# EAGLE library part 4VFX12FF668 (library xilinx_spartan3_virtex4_and_5)
Xilinx FPGA
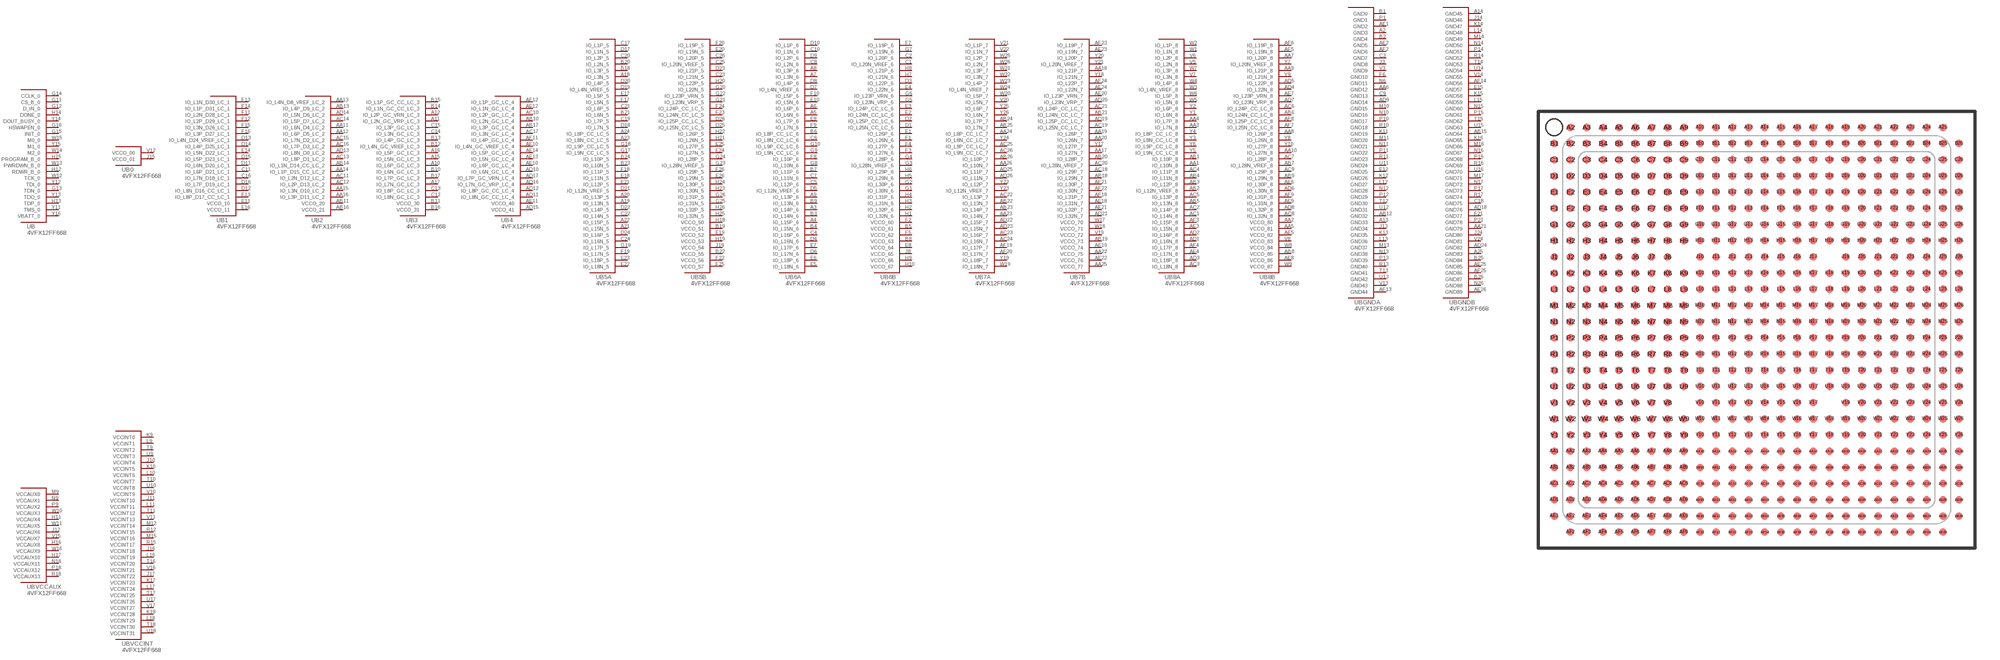
[diagram p62: symbol with the pads of FF668; footprint FF668]

Designator prefix U; gates B=4VFX12FF668_ B0=4VFX12FF668_0 B1=4VFX12FF668_1 B2=4VFX12FF668_2 B3=4VFX12FF668_3 B4=4VFX12FF668_4 B5A=4VFX12FF668_5A B5B=4VFX12FF668_5B B6A=4VFX12FF668_6A B6B=4VFX12FF668_6B B7A=4VFX12FF668_7A B7B=4VFX12FF668_7B B8A=4VFX12FF668_8A B8B=4VFX12FF668_8B BGNDA=4VFX12FF668_GNDA BGNDB=4VFX12FF668_GNDB BVCCAUX=4VFX12FF668_VCCAUX BVCCINT=4VFX12FF668_VCCINT

## 4VFX12FF668  [FF668]
A2  BGNDA:GND3  pas
A3  B6A:IO_L14P_6
A4  B6A:IO_L15P_6
A5  B6A:IO_L6N_6
A6  B6A:IO_L6P_6
A7  B6A:IO_L3N_6
A8  B6A:IO_L3P_6
A9  B6A:IO_L13P_6
A10  B3:IO_L6P_GC_LC_3
A11  B3:IO_L2N_GC_VRP_LC_3
A12  B3:IO_L2P_GC_VRN_LC_3
A13  BGNDA:GND33  pas
A14  BGNDB:GND45  pas
A15  B3:IO_L5N_GC_LC_3
A16  B3:IO_L5P_GC_LC_3
A17  B3:IO_L7N_GC_LC_3
A18  B5A:IO_L3N_5
A19  B5A:IO_L13N_5
A20  B5A:IO_L13P_5
A21  B5A:IO_L15N_5
A22  B5A:IO_L15P_5
A23  B5A:IO_L8N_CC_LC_5
A24  B5A:IO_L8P_CC_LC_5
A25  BGNDB:GND83  pas
AA1  B8A:IO_L10N_8
AA2  B8B:VCCO_80  pas
AA3  B8A:IO_L7N_8
AA4  B8A:IO_L7P_8
AA5  B8B:VCCO_81  pas
AA6  BGNDA:GND12  pas
AA7  B8B:IO_L20P_8
AA8  B8B:IO_L26P_8
AA9  B8B:IO_L21P_8
AA10  B8B:IO_L27N_8
AA11  B2:IO_L6N_D4_LC_2
AA12  B2:IO_L6P_D5_LC_2
AA13  B2:IO_L4N_D8_VREF_LC_2
AA14  B2:IO_L1P_D15_CC_LC_2
AA15  B2:IO_L3N_D10_LC_2
AA16  B2:IO_L3P_D11_LC_2
AA17  B7B:IO_L27N_7
AA18  B7B:IO_L21P_7
AA19  B7B:IO_L26P_7
AA20  B7B:IO_L26N_7
AA21  BGNDB:GND79  pas
AA22  B7B:VCCO_75  pas
AA23  B7A:IO_L14N_7
AA24  B7A:IO_L8P_CC_LC_7
AA25  B7B:VCCO_77  pas
AA26  B7A:IO_L10N_7
AB1  B8A:IO_L10P_8
AB2  B8A:IO_L12N_VREF_8
AB3  B8A:IO_L12P_8
AB4  B8A:IO_L11N_8
AB5  B8A:IO_L13N_8
AB6  B8B:IO_L24N_CC_LC_8
AB7  B8B:IO_L28N_VREF_8
AB8  B8B:VCCO_85  pas
AB9  B8B:IO_L29N_8
AB10  B4:IO_L2N_GC_LC_4
AB11  B2:VCCO_20  pas
AB12  BGNDA:GND32  pas
AB13  B2:IO_L4P_D9_LC_2
AB14  B2:IO_L1N_D14_CC_LC_2
AB15  BGNDB:GND64  pas
AB16  B2:VCCO_21  pas
AB17  B4:IO_L3P_GC_LC_4
AB18  B7B:IO_L29N_7
AB19  B7B:VCCO_73  pas
AB20  B7B:IO_L28P_7
AB21  B7B:IO_L24N_CC_LC_7
AB22  B7A:IO_L13N_7
AB23  B7A:IO_L14P_7
AB24  B7A:IO_L7P_7
AB25  B7A:IO_L7N_7
AB26  B7A:IO_L10P_7
AC1  B8A:IO_L14N_8
AC2  B8A:IO_L14P_8
AC3  B8A:IO_L18N_8
AC4  B8A:IO_L11P_8
AC5  B8A:IO_L13P_8
AC6  B8B:IO_L24P_CC_LC_8
AC7  B8B:IO_L28P_8
AC8  B8B:IO_L32N_8
AC9  B8B:IO_L29P_8
AC10  B4:IO_L2P_GC_LC_4
AC11  B2:IO_L2N_D12_LC_2
AC12  B2:IO_L2P_D13_LC_2
AC13  B2:IO_L8P_D1_LC_2
AC14  B2:IO_L5P_D7_LC_2
AC15  B2:IO_L7N_D2_LC_2
AC16  B2:IO_L7P_D3_LC_2
AC17  B4:IO_L3N_GC_LC_4
AC18  B7B:IO_L29P_7
AC19  B7B:IO_L25N_CC_LC_7
AC20  B7B:IO_L28N_VREF_7
AC21  B7B:IO_L24P_CC_LC_7
AC22  B7A:IO_L13P_7
AC23  B7A:IO_L16P_7
AC24  B7A:IO_L16N_7
AC25  B7A:IO_L9P_CC_LC_7
AC26  B7A:IO_L9N_CC_LC_7
AD1  B8A:IO_L16N_8
AD2  B8A:IO_L16P_8
AD3  B8A:IO_L18P_8
AD4  B8B:IO_L22N_8
AD5  B8B:IO_L22P_8
AD6  B8B:IO_L30N_8
AD7  B8B:IO_L23N_VRP_8
AD8  B8B:IO_L32P_8
AD9  BGNDA:GND14  pas
AD10  B4:IO_L6N_GC_LC_4
AD11  B4:IO_L8N_GC_CC_LC_4
AD12  B4:IO_L8P_GC_CC_LC_4
AD13  B2:IO_L8N_D0_LC_2
AD14  B2:IO_L5N_D6_LC_2
AD15  B4:VCCO_41  pas
AD16  B4:IO_L7N_GC_VRP_LC_4
AD17  B4:IO_L7P_GC_VRN_LC_4
AD18  BGNDB:GND76  pas
AD19  B7B:IO_L25P_CC_LC_7
AD20  B7B:IO_L23N_VRP_7
AD21  B7B:IO_L32N_7
AD22  B7A:IO_L15P_7
AD23  B7A:IO_L15N_7
AD24  BGNDB:GND82  pas
AD25  B7A:IO_L11P_7
AD26  B7A:IO_L11N_7
AE1  BGNDA:GND2  pas
AE2  BGNDA:GND5  pas
AE3  B8A:IO_L15N_8
AE4  B8A:IO_L17N_8
AE5  B8B:VCCO_82  pas
AE6  B8B:IO_L30P_8
AE7  B8B:IO_L23P_VRN_8
AE8  B8B:VCCO_86  pas
AE9  B8B:IO_L31N_8
AE10  B4:IO_L6P_GC_LC_4
AE11  B4:VCCO_40  pas
AE12  B4:IO_L1N_GC_LC_4
AE13  B4:IO_L5N_GC_LC_4
AE14  B4:IO_L5P_GC_LC_4
AE18  B7B:IO_L31N_7
AE19  B7B:VCCO_74  pas
AE20  B7B:IO_L23P_VRN_7
AE21  B7B:IO_L32P_7
AE22  B7B:VCCO_76  pas
AE23  B7B:IO_L19N_7
AE24  B7B:IO_L22N_7
AE25  BGNDB:GND85  pas
AE26  BGNDB:GND89  pas
AF2  BGNDA:GND6  pas
AF3  B8A:IO_L15P_8
AF4  B8A:IO_L17P_8
AF5  B8B:IO_L19N_8
AF6  B8B:IO_L19P_8
AF7  B8B:IO_L25N_CC_LC_8
AF8  B8B:IO_L25P_CC_LC_8
AF9  B8B:IO_L31P_8
AF10  B4:IO_L4N_GC_VREF_LC_4
AF11  B4:IO_L4P_GC_LC_4
AF12  B4:IO_L1P_GC_LC_4
AF13  BGNDA:GND44  pas
AF14  BGNDB:GND56  pas
AF18  B7B:IO_L31P_7
AF19  B7A:IO_L17P_7
AF20  B7A:IO_L17N_7
AF21  B7B:IO_L30P_7
AF22  B7B:IO_L30N_7
AF23  B7B:IO_L19P_7
AF24  B7B:IO_L22P_7
AF25  BGNDB:GND86  pas
B1  BGNDA:GND0  pas
B2  BGNDA:GND4  pas
B3  B6A:IO_L14N_6
B4  B6A:IO_L15N_6
B5  B6B:VCCO_61  pas
B6  B6A:IO_L8P_CC_LC_6
B7  B6A:IO_L11P_6
B8  B6B:VCCO_63  pas
B9  B6A:IO_L13N_6
B10  B3:IO_L6N_GC_LC_3
B11  B3:VCCO_30  pas
B12  B3:IO_L4N_GC_VREF_LC_3
B13  B3:IO_L4P_GC_LC_3
B14  B3:IO_L1N_GC_CC_LC_3
B15  B3:IO_L1P_GC_CC_LC_3
B16  B3:VCCO_31  pas
B17  B3:IO_L7P_GC_LC_3
B18  B5A:IO_L3P_5
B19  B5B:VCCO_51  pas
B20  B5A:IO_L2N_5
B21  B5A:IO_L6N_5
B22  B5B:VCCO_55  pas
B23  B5A:IO_L10N_5
B24  B5A:IO_L10P_5
B25  BGNDB:GND84  pas
B26  BGNDB:GND87  pas
C1  B6B:IO_L20N_VREF_6
C2  B6B:IO_L20P_6
C3  BGNDA:GND7  pas
C4  B6A:IO_L16P_6
C5  B6A:IO_L12P_6
C6  B6A:IO_L8N_CC_LC_6
C7  B6A:IO_L11N_6
C8  B6A:IO_L2N_6
C9  BGNDA:GND13  pas
C10  B6A:IO_L1N_6
C11  B1:IO_L6P_D21_LC_1
C12  B3:IO_L8N_GC_LC_3
C13  B3:IO_L8P_GC_LC_3
C14  B3:IO_L3N_GC_LC_3
C15  B3:IO_L3P_GC_LC_3
C16  B1:IO_L7N_D18_LC_1
C17  B5A:IO_L1P_5
C18  BGNDB:GND75  pas
C19  B5A:IO_L7P_5
C20  B5A:IO_L2P_5
C21  B5A:IO_L6P_5
C22  B5A:IO_L14N_5
C23  B5B:IO_L21N_5
C24  B5A:IO_L16N_5
C25  B5B:IO_L20N_VREF_5
C26  B5B:IO_L20P_5
D1  B6B:IO_L25N_CC_LC_6
D2  B6B:IO_L25P_CC_LC_6
D3  B6B:IO_L22P_6
D4  B6A:IO_L16N_6
D5  B6A:IO_L12N_VREF_6
D6  B6A:IO_L17N_6
D7  B6A:IO_L4N_VREF_6
D8  B6A:IO_L4P_6
D9  B6A:IO_L2P_6
D10  B6A:IO_L1P_6
D11  B1:IO_L6N_D20_LC_1
D12  B1:IO_L8N_D16_CC_LC_1
D13  B1:IO_L4N_D24_VREF_LC_1
D14  B1:IO_L4P_D25_LC_1
D15  B1:IO_L5P_D23_LC_1
D16  B1:IO_L7P_D19_LC_1
D17  B5A:IO_L1N_5
D18  B5A:IO_L7N_5
D19  B5A:IO_L4N_VREF_5
D20  B5A:IO_L4P_5
D21  B5A:IO_L12N_VREF_5
D22  B5A:IO_L14P_5
D23  B5B:IO_L21P_5
D24  B5A:IO_L16P_5
D25  B5B:IO_L25N_CC_LC_5
D26  B5B:IO_L25P_CC_LC_5
E1  B6B:IO_L26P_6
E2  B6B:IO_L24N_CC_LC_6
E3  B6B:IO_L24P_CC_LC_6
E4  B6B:IO_L22N_6
E5  B6A:IO_L18N_6
E6  B6A:IO_L18P_6
E7  B6A:IO_L17P_6
E8  B6B:VCCO_64  pas
E9  B6A:IO_L7P_6
E10  B6A:IO_L5N_6
E11  B1:VCCO_10  pas
E12  BGNDA:GND25  pas
E13  B1:IO_L8P_D17_CC_LC_1
E14  B1:IO_L5N_D22_LC_1
E15  BGNDB:GND57  pas
E16  B1:VCCO_11  pas
E17  B5A:IO_L5P_5
E18  B5A:IO_L11N_5
E19  B5B:VCCO_52  pas
E20  B5B:IO_L19N_5
E21  B5A:IO_L12P_5
E22  B5A:IO_L18N_5
E23  B5A:IO_L18P_5
E24  B5B:IO_L27N_5
E25  B5B:IO_L27P_5
E26  B5B:IO_L29N_5
F1  B6B:IO_L26N_6
F2  B6B:VCCO_60  pas
F3  B6B:IO_L27N_6
F4  B6B:IO_L27P_6
F5  B6B:VCCO_62  pas
F6  BGNDA:GND10  pas
F7  B6B:IO_L19P_6
F8  B6A:IO_L10P_6
F9  B6A:IO_L7N_6
F10  B6A:IO_L5P_6
F11  B1:IO_L2N_D28_LC_1
F12  B1:IO_L2P_D29_LC_1
F13  B1:IO_L1N_D30_LC_1
F14  B1:IO_L1P_D31_LC_1
F15  B1:IO_L3N_D26_LC_1
F16  B1:IO_L3P_D27_LC_1
F17  B5A:IO_L5N_5
F18  B5A:IO_L11P_5
F19  B5A:IO_L17N_5
F20  B5B:IO_L19P_5
F21  BGNDB:GND77  pas
F22  B5B:VCCO_56  pas
F23  B5B:IO_L24N_CC_LC_5
F24  B5B:IO_L24P_CC_LC_5
F25  B5B:VCCO_57  pas
F26  B5B:IO_L29P_5
G1  B6B:IO_L30N_6
G2  B6B:IO_L30P_6
G3  B6B:IO_L28N_VREF_6
G4  B6B:IO_L28P_6
G5  B6B:IO_L23N_VRP_6
G6  B6B:IO_L23P_VRN_6
G7  B6B:IO_L19N_6
G8  B6A:IO_L10N_6
G9  B6A:IO_L9N_CC_LC_6
G10  B6A:IO_L9P_CC_LC_6
G11  B:CS_B_0
G12  B:D_IN_0
G13  B:TDN_0
G14  B:CCLK_0
G15  B:INIT_0
G16  B:HSWAPEN_0
G17  B5A:IO_L9N_CC_LC_5
G18  B5A:IO_L9P_CC_LC_5
G19  B5A:IO_L17P_5
G20  B5B:IO_L22N_5
G21  B5B:IO_L23N_VRP_5
G22  B5B:IO_L23P_VRN_5
G23  B5B:IO_L28N_VREF_5
G24  B5B:IO_L28P_5
G25  B5B:IO_L31N_5
G26  B5B:IO_L31P_5
H1  B6B:IO_L32N_6
H2  B6B:IO_L32P_6
H3  B6B:IO_L31N_6
H4  B6B:IO_L31P_6
H5  B6B:IO_L29N_6
H6  B6B:IO_L29P_6
H7  B6B:IO_L21N_6
H8  B6B:IO_L21P_6
H9  B6B:VCCO_66  pas
H10  B6B:VCCO_67  pas
H11  BVCCAUX:VCCAUX4  pas
H12  B:RDWR_B_0
H13  B:TDP_0
H14  B:DONE_0
H15  B:PROGRAM_B_0
H16  BVCCAUX:VCCAUX8  pas
H17  BVCCAUX:VCCAUX10  pas
H18  B5B:VCCO_50  pas
H19  B5B:VCCO_53  pas
H20  B5B:IO_L22P_5
H21  B5B:IO_L26N_5
H22  B5B:IO_L26P_5
H23  B5B:IO_L30N_5
H24  B5B:IO_L30P_5
H25  B5B:IO_L32N_5
H26  B5B:IO_L32P_5
J3  BGNDA:GND8  pas
J8  B6B:VCCO_65  pas
J10  BVCCINT:VCCINT4  pas
J11  BVCCINT:VCCINT10  pas
J12  BVCCAUX:VCCAUX6  pas
J13  BGNDA:GND34  pas
J14  BGNDB:GND46  pas
J15  B0:VCCO_01  pas
J16  BVCCINT:VCCINT18  pas
J17  BVCCINT:VCCINT22  pas
J19  B5B:VCCO_54  pas
J24  BGNDB:GND80  pas
K9  BVCCINT:VCCINT0  pas
K10  BVCCINT:VCCINT5  pas
K11  BGNDA:GND19  pas
K12  BGNDA:GND26  pas
K13  BGNDA:GND35  pas
K14  BGNDB:GND47  pas
K15  BGNDB:GND58  pas
K16  BGNDB:GND65  pas
K17  BVCCINT:VCCINT23  pas
K18  BVCCINT:VCCINT28  pas
L9  BVCCINT:VCCINT1  pas
L10  BVCCINT:VCCINT6  pas
L11  BVCCINT:VCCINT11  pas
L12  BGNDA:GND27  pas
L13  BGNDA:GND36  pas
L14  BGNDB:GND48  pas
L15  BGNDB:GND59  pas
L16  BVCCINT:VCCINT19  pas
L17  BVCCINT:VCCINT24  pas
L18  BVCCINT:VCCINT29  pas
M9  BVCCAUX:VCCAUX0  pas
M10  BGNDA:GND15  pas
M11  BGNDA:GND20  pas
M12  BVCCINT:VCCINT14  pas
M13  BGNDA:GND37  pas
M14  BGNDB:GND49  pas
M15  BVCCINT:VCCINT16  pas
M16  BGNDB:GND66  pas
M17  BGNDB:GND71  pas
N6  BGNDA:GND11  pas
N9  BVCCAUX:VCCAUX1  pas
N10  BGNDA:GND16  pas
N11  BGNDA:GND21  pas
N12  BGNDA:GND28  pas
N13  BGNDA:GND38  pas
N14  BGNDB:GND50  pas
N15  BGNDB:GND60  pas
N16  BGNDB:GND67  pas
N17  BGNDB:GND72  pas
N18  BVCCAUX:VCCAUX11  pas
N26  BGNDB:GND88  pas
P1  BGNDA:GND1  pas
P9  BVCCAUX:VCCAUX2  pas
P10  BGNDA:GND17  pas
P11  BGNDA:GND22  pas
P12  BGNDA:GND29  pas
P13  BGNDA:GND39  pas
P14  BGNDB:GND51  pas
P15  BGNDB:GND61  pas
P16  BGNDB:GND68  pas
P17  BGNDB:GND73  pas
P18  BVCCAUX:VCCAUX12  pas
P21  BGNDB:GND78  pas
R10  BGNDA:GND18  pas
R11  BGNDA:GND23  pas
R12  BVCCINT:VCCINT15  pas
R13  BGNDA:GND40  pas
R14  BGNDB:GND52  pas
R15  BVCCINT:VCCINT17  pas
R16  BGNDB:GND69  pas
R17  BGNDB:GND74  pas
R18  BVCCAUX:VCCAUX13  pas
T9  BVCCINT:VCCINT2  pas
T10  BVCCINT:VCCINT7  pas
T11  BVCCINT:VCCINT12  pas
T12  BGNDA:GND30  pas
T13  BGNDA:GND41  pas
T14  BGNDB:GND53  pas
T15  BGNDB:GND62  pas
T16  BVCCINT:VCCINT20  pas
T17  BVCCINT:VCCINT25  pas
T18  BVCCINT:VCCINT30  pas
U9  BVCCINT:VCCINT3  pas
U10  BVCCINT:VCCINT8  pas
U11  BGNDA:GND24  pas
U12  BGNDA:GND31  pas
U13  BGNDA:GND42  pas
U14  BGNDB:GND54  pas
U15  BGNDB:GND63  pas
U16  BGNDB:GND70  pas
U17  BVCCINT:VCCINT26  pas
U18  BVCCINT:VCCINT31  pas
V3  BGNDA:GND9  pas
V5  B8A:IO_L2N_8
V6  B8A:IO_L2P_8
V7  B8A:IO_L3N_8
V8  B8B:VCCO_83  pas
V10  BVCCINT:VCCINT9  pas
V11  BVCCINT:VCCINT13  pas
V12  B0:VCCO_00  pas
V13  BGNDA:GND43  pas
V14  BGNDB:GND55  pas
V15  BVCCAUX:VCCAUX7  pas
V16  BVCCINT:VCCINT21  pas
V17  BVCCINT:VCCINT27  pas
V19  B7B:VCCO_72  pas
V20  B7A:IO_L5N_7
V21  B7A:IO_L1P_7
V22  B7A:IO_L1N_7
V24  BGNDB:GND81  pas
W1  B8A:IO_L1N_8
W2  B8A:IO_L1P_8
W3  B8A:IO_L4N_VREF_8
W4  B8A:IO_L4P_8
W5  B8A:IO_L5N_8
W6  B8A:IO_L5P_8
W7  B8A:IO_L3P_8
W8  B8B:VCCO_84  pas
W9  B8B:VCCO_87  pas
W10  BVCCAUX:VCCAUX3  pas
W11  BVCCAUX:VCCAUX5  pas
W12  B:TCK_0
W13  B:PWRDWN_B_0
W14  B:M2_0
W15  B:M0_0
W16  BVCCAUX:VCCAUX9  pas
W17  B7B:VCCO_70  pas
W18  B7B:VCCO_71  pas
W19  B7A:IO_L18N_7
W20  B7A:IO_L5P_7
W21  B7A:IO_L3P_7
W22  B7A:IO_L3N_7
W23  B7A:IO_L4P_7
W24  B7A:IO_L4N_VREF_7
W25  B7A:IO_L2P_7
W26  B7A:IO_L2N_7
Y1  B8A:IO_L6N_8
Y2  B8A:IO_L6P_8
Y3  B8A:IO_L8N_CC_LC_8
Y4  B8A:IO_L8P_CC_LC_8
Y5  B8A:IO_L9N_CC_LC_8
Y6  B8A:IO_L9P_CC_LC_8
Y7  B8B:IO_L20N_VREF_8
Y8  B8B:IO_L26N_8
Y9  B8B:IO_L21N_8
Y10  B8B:IO_L27P_8
Y11  B:TMS_0
Y12  B:TDI_0
Y13  B:TDO_0
Y14  B:DOUT_BUSY_0
Y15  B:M1_0
Y16  B:VBATT_0
Y17  B7B:IO_L27P_7
Y18  B7B:IO_L21N_7
Y19  B7A:IO_L18P_7
Y20  B7B:IO_L20P_7
Y21  B7B:IO_L20N_VREF_7
Y22  B7A:IO_L12P_7
Y23  B7A:IO_L12N_VREF_7
Y24  B7A:IO_L8N_CC_LC_7
Y25  B7A:IO_L6P_7
Y26  B7A:IO_L6N_7

## Footprint FF668 (pad centres in mm)
smd 0.45 x 0.45: A2 -11.5,12.5; A3 -10.5,12.5; A4 -9.5,12.5; A5 -8.5,12.5; A6 -7.5,12.5; A7 -6.5,12.5; A8 -5.5,12.5; A9 -4.5,12.5; A10 -3.5,12.5; A11 -2.5,12.5; A12 -1.5,12.5; A13 -0.5,12.5; A14 0.5,12.5; A15 1.5,12.5; A16 2.5,12.5; A17 3.5,12.5; A18 4.5,12.5; A19 5.5,12.5; A20 6.5,12.5; A21 7.5,12.5; A22 8.5,12.5; A23 9.5,12.5; A24 10.5,12.5; A25 11.5,12.5; AA1 -12.5,-7.5; AA2 -11.5,-7.5; AA3 -10.5,-7.5; AA4 -9.5,-7.5; AA5 -8.5,-7.5; AA6 -7.5,-7.5; AA7 -6.5,-7.5; AA8 -5.5,-7.5; AA9 -4.5,-7.5; AA10 -3.5,-7.5; AA11 -2.5,-7.5; AA12 -1.5,-7.5; AA13 -0.5,-7.5; AA14 0.5,-7.5; AA15 1.5,-7.5; AA16 2.5,-7.5; AA17 3.5,-7.5; AA18 4.5,-7.5; AA19 5.5,-7.5; AA20 6.5,-7.5; AA21 7.5,-7.5; AA22 8.5,-7.5; AA23 9.5,-7.5; AA24 10.5,-7.5; AA25 11.5,-7.5; AA26 12.5,-7.5; AB1 -12.5,-8.5; AB2 -11.5,-8.5; AB3 -10.5,-8.5; AB4 -9.5,-8.5; AB5 -8.5,-8.5; AB6 -7.5,-8.5; AB7 -6.5,-8.5; AB8 -5.5,-8.5; AB9 -4.5,-8.5; AB10 -3.5,-8.5; AB11 -2.5,-8.5; AB12 -1.5,-8.5; AB13 -0.5,-8.5; AB14 0.5,-8.5; AB15 1.5,-8.5; AB16 2.5,-8.5; AB17 3.5,-8.5; AB18 4.5,-8.5; AB19 5.5,-8.5; AB20 6.5,-8.5; AB21 7.5,-8.5; AB22 8.5,-8.5; AB23 9.5,-8.5; AB24 10.5,-8.5; AB25 11.5,-8.5; AB26 12.5,-8.5; AC1 -12.5,-9.5; AC2 -11.5,-9.5; AC3 -10.5,-9.5; AC4 -9.5,-9.5; AC5 -8.5,-9.5; AC6 -7.5,-9.5; AC7 -6.5,-9.5; AC8 -5.5,-9.5; AC9 -4.5,-9.5; AC10 -3.5,-9.5; AC11 -2.5,-9.5; AC12 -1.5,-9.5; AC13 -0.5,-9.5; AC14 0.5,-9.5; AC15 1.5,-9.5; AC16 2.5,-9.5; AC17 3.5,-9.5; AC18 4.5,-9.5; AC19 5.5,-9.5; AC20 6.5,-9.5; AC21 7.5,-9.5; AC22 8.5,-9.5; AC23 9.5,-9.5; AC24 10.5,-9.5; AC25 11.5,-9.5; AC26 12.5,-9.5; AD1 -12.5,-10.5; AD2 -11.5,-10.5; AD3 -10.5,-10.5; AD4 -9.5,-10.5; AD5 -8.5,-10.5; AD6 -7.5,-10.5; AD7 -6.5,-10.5; AD8 -5.5,-10.5; AD9 -4.5,-10.5; AD10 -3.5,-10.5; AD11 -2.5,-10.5; AD12 -1.5,-10.5; AD13 -0.5,-10.5; AD14 0.5,-10.5; AD15 1.5,-10.5; AD16 2.5,-10.5; AD17 3.5,-10.5; AD18 4.5,-10.5; AD19 5.5,-10.5; AD20 6.5,-10.5; AD21 7.5,-10.5; AD22 8.5,-10.5; AD23 9.5,-10.5; AD24 10.5,-10.5; AD25 11.5,-10.5; AD26 12.5,-10.5; AE1 -12.5,-11.5; AE2 -11.5,-11.5; AE3 -10.5,-11.5; AE4 -9.5,-11.5; AE5 -8.5,-11.5; AE6 -7.5,-11.5; AE7 -6.5,-11.5; AE8 -5.5,-11.5; AE9 -4.5,-11.5; AE10 -3.5,-11.5; AE11 -2.5,-11.5; AE12 -1.5,-11.5; AE13 -0.5,-11.5; AE14 0.5,-11.5; AE15 1.5,-11.5; AE16 2.5,-11.5; AE17 3.5,-11.5; AE18 4.5,-11.5; AE19 5.5,-11.5; AE20 6.5,-11.5; AE21 7.5,-11.5; AE22 8.5,-11.5; AE23 9.5,-11.5; AE24 10.5,-11.5; AE25 11.5,-11.5; AE26 12.5,-11.5; AF2 -11.5,-12.5; AF3 -10.5,-12.5; AF4 -9.5,-12.5; AF5 -8.5,-12.5; AF6 -7.5,-12.5; AF7 -6.5,-12.5; AF8 -5.5,-12.5; AF9 -4.5,-12.5; AF10 -3.5,-12.5; AF11 -2.5,-12.5; AF12 -1.5,-12.5; AF13 -0.5,-12.5; AF14 0.5,-12.5; AF15 1.5,-12.5; AF16 2.5,-12.5; AF17 3.5,-12.5; AF18 4.5,-12.5; AF19 5.5,-12.5; AF20 6.5,-12.5; AF21 7.5,-12.5; AF22 8.5,-12.5; AF23 9.5,-12.5; AF24 10.5,-12.5; AF25 11.5,-12.5; B1 -12.5,11.5; B2 -11.5,11.5; B3 -10.5,11.5; B4 -9.5,11.5; B5 -8.5,11.5; B6 -7.5,11.5; B7 -6.5,11.5; B8 -5.5,11.5; B9 -4.5,11.5; B10 -3.5,11.5; B11 -2.5,11.5; B12 -1.5,11.5; B13 -0.5,11.5; B14 0.5,11.5; B15 1.5,11.5; B16 2.5,11.5; B17 3.5,11.5; B18 4.5,11.5; B19 5.5,11.5; B20 6.5,11.5; B21 7.5,11.5; B22 8.5,11.5; B23 9.5,11.5; B24 10.5,11.5; B25 11.5,11.5; B26 12.5,11.5; C1 -12.5,10.5; C2 -11.5,10.5; C3 -10.5,10.5; C4 -9.5,10.5; C5 -8.5,10.5; C6 -7.5,10.5; C7 -6.5,10.5; C8 -5.5,10.5; C9 -4.5,10.5; C10 -3.5,10.5; C11 -2.5,10.5; C12 -1.5,10.5; C13 -0.5,10.5; C14 0.5,10.5; C15 1.5,10.5; C16 2.5,10.5; C17 3.5,10.5; C18 4.5,10.5; C19 5.5,10.5; C20 6.5,10.5; C21 7.5,10.5; C22 8.5,10.5; C23 9.5,10.5; C24 10.5,10.5; C25 11.5,10.5; C26 12.5,10.5; D1 -12.5,9.5; D2 -11.5,9.5; D3 -10.5,9.5; D4 -9.5,9.5; D5 -8.5,9.5; D6 -7.5,9.5; D7 -6.5,9.5; D8 -5.5,9.5; D9 -4.5,9.5; D10 -3.5,9.5; D11 -2.5,9.5; D12 -1.5,9.5; D13 -0.5,9.5; D14 0.5,9.5; D15 1.5,9.5; D16 2.5,9.5; D17 3.5,9.5; D18 4.5,9.5; D19 5.5,9.5; D20 6.5,9.5; D21 7.5,9.5; D22 8.5,9.5; D23 9.5,9.5; D24 10.5,9.5; D25 11.5,9.5; D26 12.5,9.5; E1 -12.5,8.5; E2 -11.5,8.5; E3 -10.5,8.5; E4 -9.5,8.5; E5 -8.5,8.5; E6 -7.5,8.5; E7 -6.5,8.5; E8 -5.5,8.5; E9 -4.5,8.5; E10 -3.5,8.5; E11 -2.5,8.5; E12 -1.5,8.5; E13 -0.5,8.5; E14 0.5,8.5; E15 1.5,8.5; E16 2.5,8.5; E17 3.5,8.5; E18 4.5,8.5; E19 5.5,8.5; E20 6.5,8.5; E21 7.5,8.5; E22 8.5,8.5; E23 9.5,8.5; E24 10.5,8.5; E25 11.5,8.5; E26 12.5,8.5; F1 -12.5,7.5; F2 -11.5,7.5; F3 -10.5,7.5; F4 -9.5,7.5; F5 -8.5,7.5; F6 -7.5,7.5; F7 -6.5,7.5; F8 -5.5,7.5; F9 -4.5,7.5; F10 -3.5,7.5; F11 -2.5,7.5; F12 -1.5,7.5; F13 -0.5,7.5; F14 0.5,7.5; F15 1.5,7.5; F16 2.5,7.5; F17 3.5,7.5; F18 4.5,7.5; F19 5.5,7.5; F20 6.5,7.5; F21 7.5,7.5; F22 8.5,7.5; F23 9.5,7.5; F24 10.5,7.5; F25 11.5,7.5; F26 12.5,7.5; G1 -12.5,6.5; G2 -11.5,6.5; G3 -10.5,6.5; G4 -9.5,6.5; G5 -8.5,6.5; G6 -7.5,6.5; G7 -6.5,6.5; G8 -5.5,6.5; G9 -4.5,6.5; G10 -3.5,6.5; G11 -2.5,6.5; G12 -1.5,6.5; G13 -0.5,6.5; G14 0.5,6.5; G15 1.5,6.5; G16 2.5,6.5; G17 3.5,6.5; G18 4.5,6.5; G19 5.5,6.5; G20 6.5,6.5; G21 7.5,6.5; G22 8.5,6.5; G23 9.5,6.5; G24 10.5,6.5; G25 11.5,6.5; G26 12.5,6.5; H1 -12.5,5.5; H2 -11.5,5.5; H3 -10.5,5.5; H4 -9.5,5.5; H5 -8.5,5.5; H6 -7.5,5.5; H7 -6.5,5.5; H8 -5.5,5.5; H9 -4.5,5.5; H10 -3.5,5.5; H11 -2.5,5.5; H12 -1.5,5.5; H13 -0.5,5.5; H14 0.5,5.5; H15 1.5,5.5; H16 2.5,5.5; H17 3.5,5.5; H18 4.5,5.5; H19 5.5,5.5; H20 6.5,5.5; H21 7.5,5.5; H22 8.5,5.5; H23 9.5,5.5; H24 10.5,5.5; H25 11.5,5.5; H26 12.5,5.5; J1 -12.5,4.5; J2 -11.5,4.5; J3 -10.5,4.5; J4 -9.5,4.5; J5 -8.5,4.5; J6 -7.5,4.5; J7 -6.5,4.5; J8 -5.5,4.5; J10 -3.5,4.5; J11 -2.5,4.5; J12 -1.5,4.5; J13 -0.5,4.5; J14 0.5,4.5; J15 1.5,4.5; J16 2.5,4.5; J17 3.5,4.5; J19 5.5,4.5; J20 6.5,4.5; J21 7.5,4.5; J22 8.5,4.5; J23 9.5,4.5; J24 10.5,4.5; J25 11.5,4.5; J26 12.5,4.5; K1 -12.5,3.5; K2 -11.5,3.5; K3 -10.5,3.5; K4 -9.5,3.5; K5 -8.5,3.5; K6 -7.5,3.5; K7 -6.5,3.5; K8 -5.5,3.5; K9 -4.5,3.5; K10 -3.5,3.5; K11 -2.5,3.5; K12 -1.5,3.5; K13 -0.5,3.5; K14 0.5,3.5; K15 1.5,3.5; K16 2.5,3.5; K17 3.5,3.5; K18 4.5,3.5; K19 5.5,3.5; K20 6.5,3.5; K21 7.5,3.5; K22 8.5,3.5; K23 9.5,3.5; K24 10.5,3.5; K25 11.5,3.5; K26 12.5,3.5; L1 -12.5,2.5; L2 -11.5,2.5; L3 -10.5,2.5; L4 -9.5,2.5; L5 -8.5,2.5; L6 -7.5,2.5; L7 -6.5,2.5; L8 -5.5,2.5; L9 -4.5,2.5; L10 -3.5,2.5; L11 -2.5,2.5; L12 -1.5,2.5; L13 -0.5,2.5; L14 0.5,2.5; L15 1.5,2.5; L16 2.5,2.5; L17 3.5,2.5; L18 4.5,2.5; L19 5.5,2.5; L20 6.5,2.5; L21 7.5,2.5; L22 8.5,2.5; L23 9.5,2.5; L24 10.5,2.5; L25 11.5,2.5; L26 12.5,2.5; M1 -12.5,1.5; M2 -11.5,1.5; M3 -10.5,1.5; M4 -9.5,1.5; M5 -8.5,1.5; M6 -7.5,1.5; M7 -6.5,1.5; M8 -5.5,1.5; M9 -4.5,1.5; M10 -3.5,1.5; M11 -2.5,1.5; M12 -1.5,1.5; M13 -0.5,1.5; M14 0.5,1.5; M15 1.5,1.5; M16 2.5,1.5; M17 3.5,1.5; M18 4.5,1.5; M19 5.5,1.5; M20 6.5,1.5; M21 7.5,1.5; M22 8.5,1.5; M23 9.5,1.5; M24 10.5,1.5; M25 11.5,1.5; M26 12.5,1.5; N1 -12.5,0.5; N2 -11.5,0.5; N3 -10.5,0.5; N4 -9.5,0.5; N5 -8.5,0.5; N6 -7.5,0.5; N7 -6.5,0.5; N8 -5.5,0.5; N9 -4.5,0.5; N10 -3.5,0.5; N11 -2.5,0.5; N12 -1.5,0.5; N13 -0.5,0.5; N14 0.5,0.5; N15 1.5,0.5; N16 2.5,0.5; N17 3.5,0.5; N18 4.5,0.5; N19 5.5,0.5; N20 6.5,0.5; N21 7.5,0.5; N22 8.5,0.5; N23 9.5,0.5; N24 10.5,0.5; N25 11.5,0.5; N26 12.5,0.5; P1 -12.5,-0.5; P2 -11.5,-0.5; P3 -10.5,-0.5; P4 -9.5,-0.5; P5 -8.5,-0.5; P6 -7.5,-0.5; P7 -6.5,-0.5; P8 -5.5,-0.5; P9 -4.5,-0.5; P10 -3.5,-0.5; P11 -2.5,-0.5; P12 -1.5,-0.5; P13 -0.5,-0.5; P14 0.5,-0.5; P15 1.5,-0.5; P16 2.5,-0.5; P17 3.5,-0.5; P18 4.5,-0.5; P19 5.5,-0.5; P20 6.5,-0.5; P21 7.5,-0.5; P22 8.5,-0.5; P23 9.5,-0.5; P24 10.5,-0.5; P25 11.5,-0.5; P26 12.5,-0.5; R1 -12.5,-1.5; R2 -11.5,-1.5; R3 -10.5,-1.5; R4 -9.5,-1.5; R5 -8.5,-1.5; R6 -7.5,-1.5; R7 -6.5,-1.5; R8 -5.5,-1.5; R9 -4.5,-1.5; R10 -3.5,-1.5; R11 -2.5,-1.5; R12 -1.5,-1.5; R13 -0.5,-1.5; R14 0.5,-1.5; R15 1.5,-1.5; R16 2.5,-1.5; R17 3.5,-1.5; R18 4.5,-1.5; R19 5.5,-1.5; R20 6.5,-1.5; R21 7.5,-1.5; R22 8.5,-1.5; R23 9.5,-1.5; R24 10.5,-1.5; R25 11.5,-1.5; R26 12.5,-1.5; T1 -12.5,-2.5; T2 -11.5,-2.5; T3 -10.5,-2.5; T4 -9.5,-2.5; T5 -8.5,-2.5; T6 -7.5,-2.5; T7 -6.5,-2.5; T8 -5.5,-2.5; T9 -4.5,-2.5; T10 -3.5,-2.5; T11 -2.5,-2.5; T12 -1.5,-2.5; T13 -0.5,-2.5; T14 0.5,-2.5; T15 1.5,-2.5; T16 2.5,-2.5; T17 3.5,-2.5; T18 4.5,-2.5; T19 5.5,-2.5; T20 6.5,-2.5; T21 7.5,-2.5; T22 8.5,-2.5; T23 9.5,-2.5; T24 10.5,-2.5; T25 11.5,-2.5; T26 12.5,-2.5; U1 -12.5,-3.5; U2 -11.5,-3.5; U3 -10.5,-3.5; U4 -9.5,-3.5; U5 -8.5,-3.5; U6 -7.5,-3.5; U7 -6.5,-3.5; U8 -5.5,-3.5; U9 -4.5,-3.5; U10 -3.5,-3.5; U11 -2.5,-3.5; U12 -1.5,-3.5; U13 -0.5,-3.5; U14 0.5,-3.5; U15 1.5,-3.5; U16 2.5,-3.5; U17 3.5,-3.5; U18 4.5,-3.5; U19 5.5,-3.5; U20 6.5,-3.5; U21 7.5,-3.5; U22 8.5,-3.5; U23 9.5,-3.5; U24 10.5,-3.5; U25 11.5,-3.5; U26 12.5,-3.5; V1 -12.5,-4.5; V2 -11.5,-4.5; V3 -10.5,-4.5; V4 -9.5,-4.5; V5 -8.5,-4.5; V6 -7.5,-4.5; V7 -6.5,-4.5; V8 -5.5,-4.5; V10 -3.5,-4.5; V11 -2.5,-4.5; V12 -1.5,-4.5; V13 -0.5,-4.5; V14 0.5,-4.5; V15 1.5,-4.5; V16 2.5,-4.5; V17 3.5,-4.5; V19 5.5,-4.5; V20 6.5,-4.5; V21 7.5,-4.5; V22 8.5,-4.5; V23 9.5,-4.5; V24 10.5,-4.5; V25 11.5,-4.5; V26 12.5,-4.5; W1 -12.5,-5.5; W2 -11.5,-5.5; W3 -10.5,-5.5; W4 -9.5,-5.5; W5 -8.5,-5.5; W6 -7.5,-5.5; W7 -6.5,-5.5; W8 -5.5,-5.5; W9 -4.5,-5.5; W10 -3.5,-5.5; W11 -2.5,-5.5; W12 -1.5,-5.5; W13 -0.5,-5.5; W14 0.5,-5.5; W15 1.5,-5.5; W16 2.5,-5.5; W17 3.5,-5.5; W18 4.5,-5.5; W19 5.5,-5.5; W20 6.5,-5.5; W21 7.5,-5.5; W22 8.5,-5.5; W23 9.5,-5.5; W24 10.5,-5.5; W25 11.5,-5.5; W26 12.5,-5.5; Y1 -12.5,-6.5; Y2 -11.5,-6.5; Y3 -10.5,-6.5; Y4 -9.5,-6.5; Y5 -8.5,-6.5; Y6 -7.5,-6.5; Y7 -6.5,-6.5; Y8 -5.5,-6.5; Y9 -4.5,-6.5; Y10 -3.5,-6.5; Y11 -2.5,-6.5; Y12 -1.5,-6.5; Y13 -0.5,-6.5; Y14 0.5,-6.5; Y15 1.5,-6.5; Y16 2.5,-6.5; Y17 3.5,-6.5; Y18 4.5,-6.5; Y19 5.5,-6.5; Y20 6.5,-6.5; Y21 7.5,-6.5; Y22 8.5,-6.5; Y23 9.5,-6.5; Y24 10.5,-6.5; Y25 11.5,-6.5; Y26 12.5,-6.5